# Altium schematic symbol library CBR05C110JAGAC.SchLib: 1 symbol
Pins are listed as number, name and electrical type; pins without a type are passive.

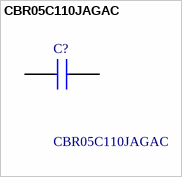
[diagram p0: symbol CBR05C110JAGAC]

## CBR05C110JAGAC
designator C?
Multilayer Ceramic Capacitors MLCC - SMD/SMT 250volts 11pF 5% C0G 0505 Size; Manufacturer_Name: KEMET; Geometry.Height: 1.3mm; Mouser Part Number: 80-CBR05C110JAG; Mouser Price/Stock: https://www.mouser.com/Search/Refine.aspx?Keyword=80-CBR05C110JAG; Manufacturer_Part_Number: CBR05C110JAGAC; Datasheet Link: https://componentsearchengine.com/Datasheets/1/CBR05C110JAGAC.pdf
footprint CAPC1514X130N
pins: 1, 2